# Altium footprint library CAPPM7343X310N.PcbLib: 1 footprints
Each footprint in its own frame and in the unit in brackets; x right, y up, seen from the top. Pads: shape width x height; smd on the part's side, far side on the other; paste and mask are expansions set on the pad; w line width, h text height; cw(c..) or ccw(c..) is an arc to the next point about the centre after c.
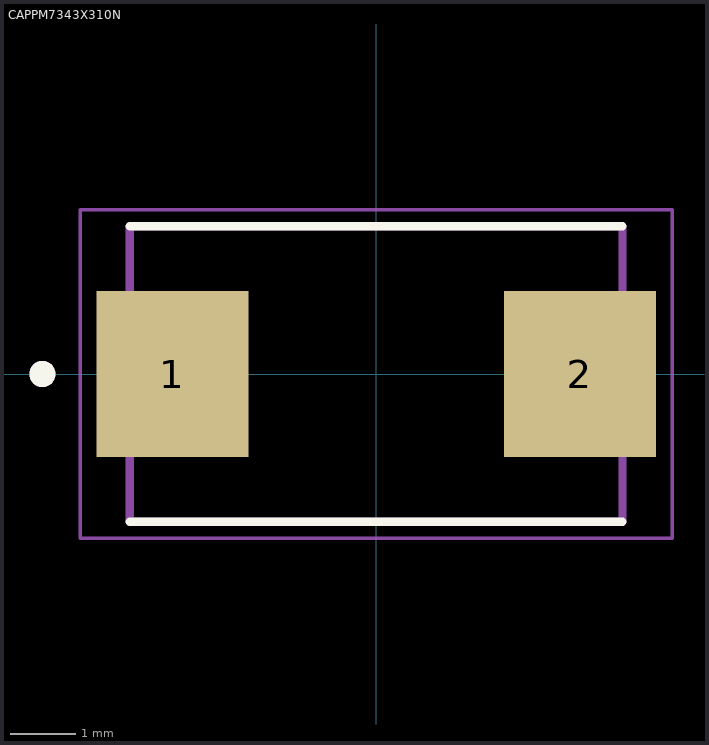
[diagram p0: the footprint, top view; thin cyan lines are the x and y axes]

## CAPPM7343X310N [mm]
pads (2):
  rect 2.31x2.52 smd: 1(-3.1,0) 2(3.1,0)
Top Overlay:
  circle w0.2: c-5.08,0 r0.1
  lines w0.127: -3.75,-2.25 3.75,-2.25 ; -3.75,2.25 3.75,2.25
Mechanical 13:
  circle w0.2: c-5.08,0 r0.1
  lines w0.127: -3.75,-2.25 3.75,-2.25 3.75,2.25 -3.75,2.25 -3.75,-2.25
Mechanical 15:
  lines w0.05: -4.505,-2.5 4.505,-2.5 4.505,2.5 -4.505,2.5 -4.505,-2.5